# Altium schematic symbol library WS-SLSV.SchLib: 3 symbols
Pins are listed as number, name and electrical type; pins without a type are passive.

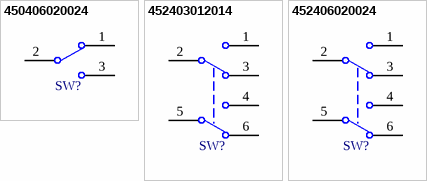
[diagram p0: symbols 450406020024 to 452406020024]

## 450406020024
designator SW?  (value not drawn)
WS-SLSV SMT Mini Slide Switch Same Side Connection, 9 x 3.5 mm, SPDT, 6VDC, 300mA, 350g; Manufacturer: Wurth Elektronik; Manufacturer Part Number: 450406020024; Category: Slide Switches; Match Code: WS-SLSV; ComponentLink1Description: Website Link; ComponentLink1URL: https://www.we-online.com/redexpert/article/450406020024?ad; ComponentLink2Description: Datasheet Link; ComponentLink2URL: https://www.we-online.com/redexpert/spec/450406020024?ad; Mount: Surface Mount; Operating Temperature Max: 85°C; Operating Temperature Min: -40°C; Packaging: Tape and Reel; Case/Size Code: 9 x 3.5 mm; Length: 9mm; Width: 3.5mm; Height: 5.5mm; Circuit: SPDT; Contact Material: Copper Alloy; Contact Plating: Silver; Operation Force: 350g; Rated Current: 300mA; Rated Voltage: 6VDC; Terminal Material: Copper Alloy; Terminal Plating: Silver
footprint 450406020024
pins: 1 L1, 2 COM, 3 L2

## 452403012014
designator SW?  (value not drawn)
WS-SLSV SMT Mini Slide Switch, Same Side Connection, DPDT, 6VDC, 300mA, 350g; Manufacturer: Wurth Elektronik; ComponentLink1Description: Website Link; ComponentLink1URL: https://www.we-online.com/redexpert/article/452403012014?ad; ComponentLink2Description: Datasheet Link; ComponentLink2URL: https://www.we-online.com/redexpert/spec/452403012014?ad; Manufacturer Part Number: 452403012014; Category: Slide Switches; Match Code: WS-SLSV; Mount: Surface Mount; Operating Temperature Max: 85°C; Operating Temperature Min: -40°C; Packaging: Tape and Reel; Length: 7.7mm; Width: 5.5mm; Height: 3.3mm; Circuit: DPDT; Contact Material: Copper Alloy; Contact Plating: Silver; Operation Force: 350g; Rated Current: 300mA; Rated Voltage: 6VDC; Terminal Material: Copper Alloy; Terminal Plating: Silver
footprint 452403012014
pins: 1, 2 COM, 3, 4, 5 COM, 6

## 452406020024
designator SW?  (value not drawn)
WS-SLSV SMT Mini Slide Switch Same Side Connection, 9 x 3.5 mm, DPDT, 6VDC, 300mA, 450g; Manufacturer: Wurth Elektronik; Manufacturer Part Number: 452406020024; Category: Slide Switches; Match Code: WS-SLSV; ComponentLink1Description: Website Link; ComponentLink1URL: https://www.we-online.com/redexpert/article/452406020024?ad; ComponentLink2Description: Datasheet Link; ComponentLink2URL: https://www.we-online.com/redexpert/spec/452406020024?ad; Mount: Surface Mount; Operating Temperature Max: 85°C; Operating Temperature Min: -40°C; Packaging: Tape and Reel; Case/Size Code: 9 x 3.5 mm; Length: 9mm; Width: 3.5mm; Height: 5.5mm; Circuit: DPDT; Contact Material: Copper Alloy; Contact Plating: Silver; Operation Force: 450g; Rated Current: 300mA; Rated Voltage: 6VDC; Terminal Material: Copper Alloy; Terminal Plating: Silver
footprint 452406020024
pins: 1, 2 COM, 3, 4, 5 COM, 6